# EAGLE library part ADS1000 (library Parts)
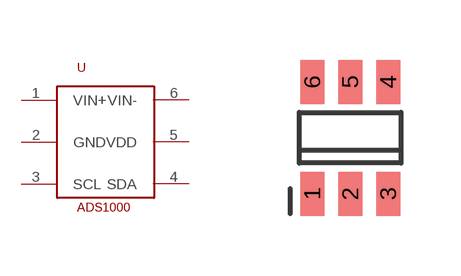
[diagram p7: symbol with the pads of SOT-23-6-DBV; footprint SOT-23-6-DBV]

Designator prefix -

## ADS1000BD0  [SOT-23-6-DBV]
1  VIN+  in
2  GND  pwr
3  SCL
4  SDA
5  VDD  pwr
6  VIN-  in

## ADS1000BD1  [SOT-23-6-DBV]
Pads as for SOT-23-6-DBV

## Footprint SOT-23-6-DBV (pad centres in mm)
6-Pin Small Outline Transistor (SOT-23) TSOT-6
smd 0.6 x 1.1: 1 -0.95,-1.4; 2 0,-1.4; 3 0.95,-1.4; 4 0.95,1.4; 5 0,1.4; 6 -0.95,1.4